# Altium footprint library L8.PcbLib: 20 footprints (part 2 of 2)
Each footprint in its own frame and in the unit in brackets; x right, y up, seen from the top. Pads: shape width x height; smd on the part's side, far side on the other; paste and mask are expansions set on the pad; w line width, h text height; cw(c..) or ccw(c..) is an arc to the next point about the centre after c.
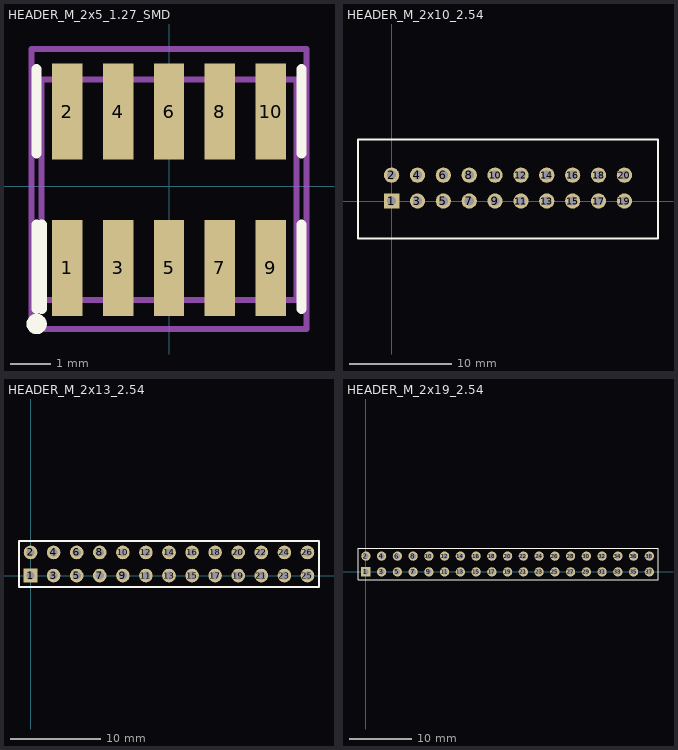
[diagram p1: the footprints below, top view; thin cyan lines are the x and y axes]

## HEADER_M_2x5_1.27_SMD [mm]
pads (10):
  rect 0.76x2.4 smd: 1(-2.54,-2.032) 2(-2.54,1.868) 3(-1.27,-2.032) 4(-1.27,1.868) 5(0,-2.032) 6(0,1.868) 7(1.27,-2.032) 8(1.27,1.868) 9(2.54,-2.032) 10(2.54,1.868)
Top Overlay:
  circle w0.254: c-3.302,-3.429 r0.127
  lines w0.254: -3.302,-3.048 -3.302,-0.957 ; -3.302,0.83 -3.302,2.921 ; -3.175,-3.048 -3.175,-0.957 ; 3.302,-3.048 3.302,-0.957 ; 3.302,0.83 3.302,2.921
Mechanical 13:
  lines w0.152: -3.175,2.667 -3.175,-2.833 3.175,-2.833 ; -3.175,2.667 3.175,2.667 ; -3.175,2.667 3.175,2.667 ; 3.175,-2.833 3.175,2.667 ; 3.175,-2.833 3.175,-2.833 ; 3.175,2.667 3.175,2.667
Mechanical 15:
  lines w0.152: -3.429,-3.556 -3.429,3.429 3.429,3.429 3.429,-3.556 -3.429,-3.556
Mechanical 17:
  text "'.Designator'" at -3.048,-0.508 h0.76
3D body "User Library-RM127_10pin_Header.step": height 4.51, standoff 0.01, extent -3.175,-2.833 3.175,2.667

## HEADER_M_2x10_2.54 [mm] "Connector; Header; 10 Position; Male"
pads (20):
  rect 1.5x1.5 hole 0.9: 1(0,0)
  round 1.5 hole 0.9: 2(0,2.54) 3(2.54,0) 4(2.54,2.54) 5(5.08,0) 6(5.08,2.54) 7(7.62,0) 8(7.62,2.54) 9(10.16,0) 10(10.16,2.54) 11(12.7,0) 12(12.7,2.54) 13(15.24,0) 14(15.24,2.54) 15(17.78,0) 16(17.78,2.54) 17(20.32,0) 18(20.32,2.54) 19(22.86,0) 20(22.86,2.54)
Top Overlay:
  lines w0.2: -3.302,-3.683 26.162,-3.683 26.162,-0.762 26.162,6.045 2.464,6.045 -3.302,6.045 -3.302,3.302 -3.302,-3.683
3D body "User Library-Samtec-TSS-110-01-G-D.STEP": height 8.89, standoff -3.3, extent -3.175,-3.569 26.035,5.906

## HEADER_M_2x13_2.54 [mm] "Connector; Header; 10 Position; Male"
pads (26):
  rect 1.5x1.5 hole 0.9: 1(0,0)
  round 1.5 hole 0.9: 2(0,2.54) 3(2.54,0) 4(2.54,2.54) 5(5.08,0) 6(5.08,2.54) 7(7.62,0) 8(7.62,2.54) 9(10.16,0) 10(10.16,2.54) 11(12.7,0) 12(12.7,2.54) 13(15.24,0) 14(15.24,2.54) 15(17.78,0) 16(17.78,2.54) 17(20.32,0) 18(20.32,2.54) 19(22.86,0) 20(22.86,2.54) 21(25.4,0) 22(25.4,2.54) 23(27.94,0) 24(27.94,2.54) 25(30.48,0) 26(30.48,2.54)
Top Overlay:
  lines w0.2: -1.27,-1.27 26.162,-1.27 31.75,-1.27 31.75,3.81 0.229,3.81 -1.27,3.81 -1.27,1.27 -1.27,-1.27
3D body "2x13.stp": height 8.55, standoff -2.99, extent -1.27,-1.27 31.75,3.81

## HEADER_M_2x19_2.54 [mm] "Connector; Header; 38 Position; Male"
pads (38):
  rect 1.5x1.5 hole 0.9: 1(0,0)
  round 1.5 hole 0.9: 2(0,2.54) 3(2.54,0) 4(2.54,2.54) 5(5.08,0) 6(5.08,2.54) 7(7.62,0) 8(7.62,2.54) 9(10.16,0) 10(10.16,2.54) 11(12.7,0) 12(12.7,2.54) 13(15.24,0) 14(15.24,2.54) 15(17.78,0) 16(17.78,2.54) 17(20.32,0) 18(20.32,2.54) 19(22.86,0) 20(22.86,2.54) 21(25.4,0) 22(25.4,2.54) 23(27.94,0) 24(27.94,2.54) 25(30.48,0) 26(30.48,2.54) 27(33.02,0) 28(33.02,2.54) 29(35.56,0) 30(35.56,2.54) 31(38.1,0) 32(38.1,2.54) 33(40.64,0) 34(40.64,2.54) 35(43.18,0) 36(43.18,2.54) 37(45.72,0) 38(45.72,2.54)
Top Overlay:
  lines w0.2: -1.27,-1.27 -1.27,1.27 -1.27,3.81 47.117,3.81 47.117,-1.27 -1.27,-1.27
3D body "9.stp": height 8.2, standoff -3, extent 24.23,1.294 47.09,3.793
3D body "10.stp": height 8.2, standoff -3, extent -1.17,1.294 24.23,3.793
3D body "10.stp": height 8.2, standoff -3, extent -1.17,-1.246 24.23,1.253
3D body "9.stp": height 8.2, standoff -3, extent 24.23,-1.246 47.09,1.253